# EAGLE library part OLED64X256 (library OLED)
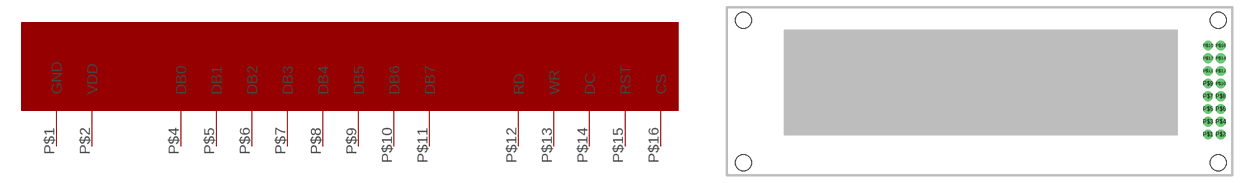
[diagram p0: symbol with the pads of OLED64X256; footprint OLED64X256]

Designator prefix -

## OLED64X256  [OLED64X256]
P$1  GND  pwr
P$2  VDD  pwr
P$4  DB0
P$5  DB1
P$6  DB2
P$7  DB3
P$8  DB4
P$9  DB5
P$10  DB6
P$11  DB7
P$12  RD
P$13  WR
P$14  DC
P$15  RST
P$16  CS

## Footprint OLED64X256 (pad centres in mm)
drill 0.8 pad 1.93: P$1 96.52,8.89; P$2 99.06,8.89; P$3 96.52,11.43; P$4 99.06,11.43; P$5 96.52,13.97; P$6 99.06,13.97; P$7 96.52,16.51; P$8 99.06,16.51; P$9 96.52,19.05; P$10 99.06,19.05; P$11 96.52,21.59; P$12 99.06,21.59; P$13 96.52,24.13; P$14 99.06,24.13; P$15 96.52,26.67; P$16 99.06,26.67
hole 3.2 at 3.56,3.275
hole 3.2 at 98.56,3.275
hole 3.2 at 3.56,31.775
hole 3.2 at 98.56,31.775